# EAGLE library part TTAG_M (library sjg-pixl)
PIN HEADER
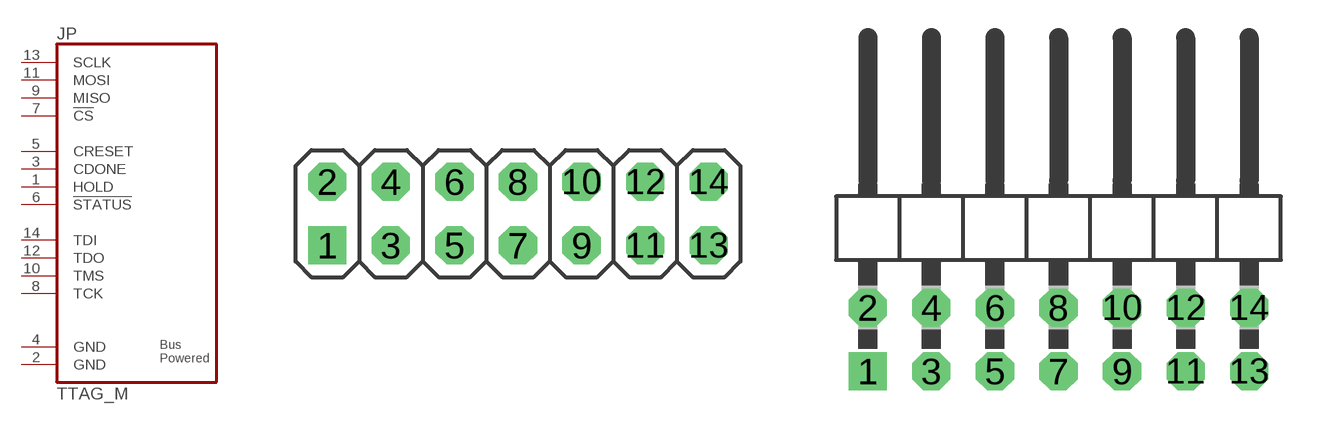
[diagram p9: symbol with the pads of 2X07; footprints 2X07, 2X07/90]

Designator prefix JP

## TTAG_M_2.54  [2X07]
1  HOLD
2  GND
3  CDONE
4  GND
5  CRESET
6  !STATUS!
7  !CS!
8  TCK
9  MISO
10  TMS
11  MOSI
12  TDO
13  SCLK
14  TDI

## TTAG_M_2.54-90°  [2X07/90]
Pads as for 2X07

## TTAG_M_2.00  [2X07M]
Pads as for 2X07

## TTAG_M_2.54-SMD  [2X07SMD]
Pads as for 2X07

## TTAG_M_MICROMATCH  [MICROMATCH-14]
Pads as for 2X07

## TTAG_M_2.54-SMD-90°  [2X07SMD/90]
Pads as for 2X07

## Footprint 2X07 (pad centres in mm)
PIN HEADER - 2.54
drill 1.016 square: 1 -7.62,-1.27
drill 1.016 octagon: 2 -7.62,1.27; 3 -5.08,-1.27; 4 -5.08,1.27; 5 -2.54,-1.27; 6 -2.54,1.27; 7 0,-1.27; 8 0,1.27; 9 2.54,-1.27; 10 2.54,1.27; 11 5.08,-1.27; 12 5.08,1.27; 13 7.62,-1.27; 14 7.62,1.27

## Footprint 2X07/90 (pad centres in mm)
PIN HEADER - 2.54 90°
drill 1.016 square: 1 -7.62,-6.35
drill 1.016 octagon: 2 -7.62,-3.81; 3 -5.08,-6.35; 4 -5.08,-3.81; 5 -2.54,-6.35; 6 -2.54,-3.81; 7 0,-6.35; 8 0,-3.81; 9 2.54,-6.35; 10 2.54,-3.81; 11 5.08,-6.35; 12 5.08,-3.81; 13 7.62,-6.35; 14 7.62,-3.81

## Footprint 2X07M (pad centres in mm)
PIN HEADER - 2
drill 0.914 square: 1 -6,-1
drill 0.914: 2 -6,1; 3 -4,-1; 4 -4,1; 5 -2,-1; 6 -2,1; 7 0,-1; 8 0,1; 9 2,-1; 10 2,1; 11 4,-1; 12 4,1; 13 6,-1; 14 6,1

## Footprint 2X07SMD (pad centres in mm)
PIN HEADER - 2.54 SMD
smd 1.016 x 3.302: 1 -1.27,-3.81; 2 -1.27,1.27; 3 1.27,-3.81; 4 1.27,1.27; 5 3.81,-3.81; 6 3.81,1.27; 7 6.35,-3.81; 8 6.35,1.27; 9 8.89,-3.81; 10 8.89,1.27; 11 11.43,-3.81; 12 11.43,1.27; 13 13.97,-3.81; 14 13.97,1.27

## Footprint MICROMATCH-14 (pad centres in mm)
MicroMaTch 14 8-215464-4 / 1-215464-4 Drawing Number C-215464 DDEController.pdf
drill 0.813: 1 8.255,1.27; 2 6.985,-1.27; 3 5.715,1.27; 4 4.445,-1.27; 5 3.175,1.27; 6 1.905,-1.27; 7 0.635,1.27; 8 -0.635,-1.27; 9 -1.905,1.27; 10 -3.175,-1.27; 11 -4.445,1.27; 12 -5.715,-1.27; 13 -6.985,1.27; 14 -8.255,-1.27

## Footprint 2X07SMD/90 (pad centres in mm)
PIN HEADER - 2.54 90°
smd 1.016 x 1.778: 1 -1.27,-8.89; 2 -1.27,-5.08; 3 1.27,-8.89; 4 1.27,-5.08; 5 3.81,-8.89; 6 3.81,-5.08; 7 6.35,-8.89; 8 6.35,-5.08; 9 8.89,-8.89; 10 8.89,-5.08; 11 11.43,-8.89; 12 11.43,-5.08; 13 13.97,-8.89; 14 13.97,-5.08